# Altium footprint library RESC6432X09M.PcbLib: 1 footprints
Each footprint in its own frame and in the unit in brackets; x right, y up, seen from the top. Pads: shape width x height; smd on the part's side, far side on the other; paste and mask are expansions set on the pad; w line width, h text height; cw(c..) or ccw(c..) is an arc to the next point about the centre after c.
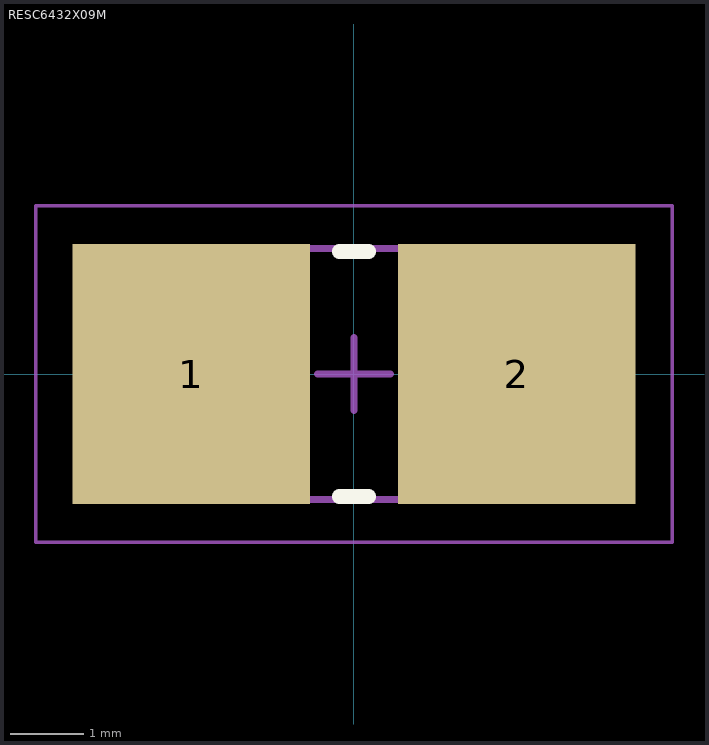
[diagram p0: the footprint, top view; thin cyan lines are the x and y axes]

## RESC6432X09M [mm] "Chip Resistor, 2-Leads, Body 6,35x3,18mm, IPC Low Density 2512"
height 0.88
pads (2):
  rect 3.25x3.55 smd: 1(-2.225,0) 2(2.225,0)
Top Overlay:
  lines w0.2: -0.2,-1.675 0.2,-1.675 ; -0.2,1.675 0.2,1.675
3D Body:
  lines w0.1: -3.3,-1.715 3.3,-1.715 3.3,1.715 -3.3,1.715 -3.3,-1.715
Board:
  lines w0.05: -4.35,-2.3 4.35,-2.3 4.35,2.3 -4.35,2.3 -4.35,-2.3
  lines w0.1: -0.5,0 0.5,0 ; 0,-0.5 0,0.5
3D body: height 0.88, standoff 0, extent 1.09,-1.715 3.3,1.715
3D body: height 0.88, standoff 0, extent -3.3,-1.715 -1.09,1.715
3D body: height 0.88, standoff 0, extent -1.09,-1.715 1.09,1.715